# Altium schematic symbol library LM317T.SchLib: 1 symbol
Pins are listed as number, name and electrical type; pins without a type are passive.

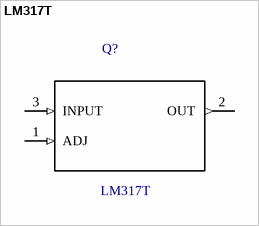
[diagram p0: symbol LM317T]

## LM317T
designator Q?
LM317 Series 1.5 A 1.2 to 37 V Adjustable Positive Voltage Regulator - TO-220; MF: STMicroelectronics; Availability: Good; Price: 0.27 USD; Package: TO-220 STMicroelectronics; MP: LM317T; Value: *
footprint TO254P450X1020X2000-3P
pins: 1 ADJ (in), 2 OUT (out), 3 INPUT (in)